# Altium schematic symbol library IC_74xx154.SchLib: 1 symbol
Pins are listed as number, name and electrical type; pins without a type are passive.

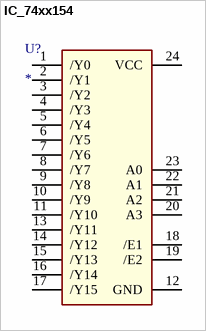
[diagram p0: symbol IC_74xx154]

## IC_74xx154
designator U?
pins: 1 /Y0, 2 /Y1, 3 /Y2, 4 /Y3, 5 /Y4, 6 /Y5, 7 /Y6, 8 /Y7, 9 /Y8, 10 /Y9, 11 /Y10, 12 GND, 13 /Y11, 14 /Y12, 15 /Y13, 16 /Y14, 17 /Y15, 18 /E1, 19 /E2, 20 A3, 21 A2, 22 A1, 23 A0, 24 VCC